# Altium integrated library EL817S_D__TU_.IntLib: 1 symbol
Pins are listed as number, name and electrical type; pins without a type are passive.

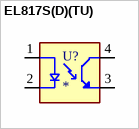
[diagram p0: symbol EL817S(D)(TU)]

## EL817S(D)(TU)
designator U?
Optoisolator Transistor Output 5000Vrms 1 Channel 4-SMD; MF: Everlight Electronics; MP: EL817S(D)(TU); Package: SMD-4 EVERLIGHT; Price: None; Value: *; SnapEDA_Link: https://www.snapeda.com/parts/EL817S(D)(TU)/Everlight+Electronics+Co+Ltd/view-part/?ref=snap; Availability: In Stock; Check_prices: https://www.snapeda.com/parts/EL817S(D)(TU)/Everlight+Electronics+Co+Ltd/view-part/?ref=eda
footprint SOIC254P1030X460-4N
pins: 1 A, 2 C, 3 ET, 4 CT